# EAGLE library part LTM4622IY#PBF (library Picoradio1V1)
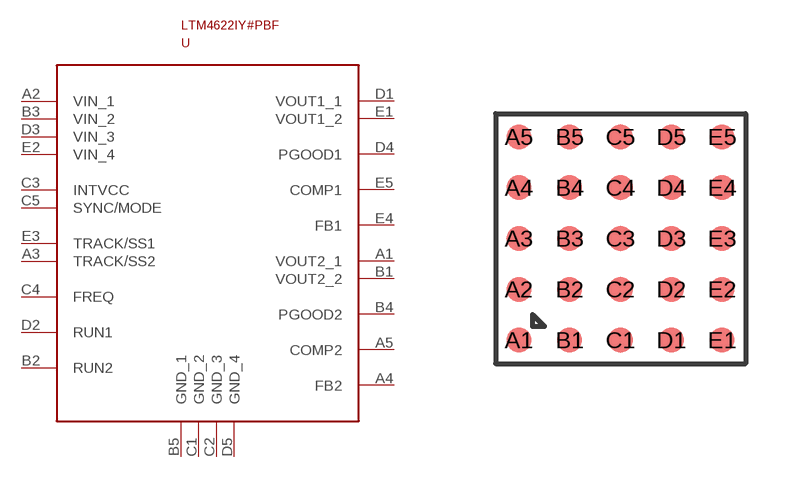
[diagram p2: symbol with the pads of LTM4622IY#PBF; footprint LTM4622IY#PBF]

Designator prefix U

## LTM4622IY#PBF  [LTM4622IY#PBF]
A1  VOUT2_1
A2  VIN_1
A3  TRACK/SS2
A4  FB2
A5  COMP2
B1  VOUT2_2
B2  RUN2
B3  VIN_2
B4  PGOOD2
B5  GND_1
C1  GND_2
C2  GND_3
C3  INTVCC
C4  FREQ
C5  SYNC/MODE
D1  VOUT1_1
D2  RUN1
D3  VIN_3
D4  PGOOD1
D5  GND_4
E1  VOUT1_2
E2  VIN_4
E3  TRACK/SS1
E4  FB1
E5  COMP1

## Footprint LTM4622IY#PBF (pad centres in mm)
smd 0.63 x 0.63: A1 -2.54,-2.54; A2 -2.54,-1.27; A3 -2.54,0; A4 -2.54,1.27; A5 -2.54,2.54; B1 -1.27,-2.54; B2 -1.27,-1.27; B3 -1.27,0; B4 -1.27,1.27; B5 -1.27,2.54; C1 0,-2.54; C2 0,-1.27; C3 0,0; C4 0,1.27; C5 0,2.54; D1 1.27,-2.54; D2 1.27,-1.27; D3 1.27,0; D4 1.27,1.27; D5 1.27,2.54; E1 2.54,-2.54; E2 2.54,-1.27; E3 2.54,0; E4 2.54,1.27; E5 2.54,2.54